# Altium footprint library OPA277.PcbLib: 2 footprints
Each footprint in its own frame and in the unit in brackets; x right, y up, seen from the top. Pads: shape width x height; smd on the part's side, far side on the other; paste and mask are expansions set on the pad; w line width, h text height; cw(c..) or ccw(c..) is an arc to the next point about the centre after c.
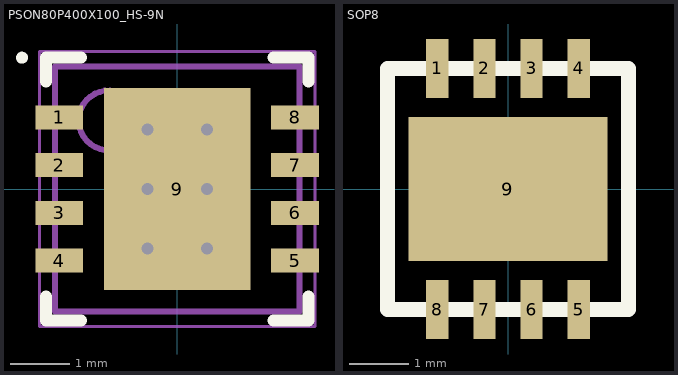
[diagram p0: the footprints below, top view; thin cyan lines are the x and y axes]

## PSON80P400X100_HS-9N [mm] "PSON, 8-Leads, Body 4,00x4,00mm, Pitch 0,80mm, Thermal Pad 3,38x2,45mm, IPC Medium Density"
height 1
pads (9):
  rect 0.8x0.4 smd: 1(-1.975,1.2) 2(-1.975,0.4) 3(-1.975,-0.4) 4(-1.975,-1.2) 5(1.975,-1.2) 6(1.975,-0.4) 7(1.975,0.4) 8(1.975,1.2)
  rect 2.45x3.38 smd paste-1.225: 9(0,0)
via 0.5,-1 diameter 0.5 hole 0.2
via -0.5,-1 diameter 0.5 hole 0.2
via 0.5,0 diameter 0.5 hole 0.2
via -0.5,0 diameter 0.5 hole 0.2
via 0.5,1 diameter 0.5 hole 0.2
via -0.5,1 diameter 0.5 hole 0.2
Top Overlay:
  circle w0.1: c-2.6,2.2 r0.05
  lines w0.2: -2.2,-1.8 -2.2,-2.2 -1.61,-2.2 ; -2.2,1.8 -2.2,2.2 -1.61,2.2 ; 1.61,-2.2 2.2,-2.2 2.2,-1.8 ; 1.61,2.2 2.2,2.2 2.2,1.8
Top Paste:
  rectangle: 0.15,-1.8 1.65,-0.8
  rectangle: 0.15,-0.5 1.65,0.5
  rectangle: 0.15,0.8 1.65,1.8
  rectangle: -1.65,-1.8 -0.15,-0.8
  rectangle: -1.65,-0.5 -0.15,0.5
  rectangle: -1.65,0.8 -0.15,1.8
Mechanical 13:
  circle w0.1: c-1.15,1.15 r0.5
  lines w0.1: -2.05,-2.05 2.05,-2.05 2.05,2.05 -2.05,2.05 -2.05,-2.05
Mechanical 15:
  lines w0.05: -2.305,-2.3 2.305,-2.3 2.305,2.3 -2.305,2.3 -2.305,-2.3
  lines w0.1: -0.5,0 0.5,0 ; 0,-0.5 0,0.5
3D body: height 1, standoff 0.08, extent -2.05,-2.05 2.05,2.05

## SOP8 [mm]
pads (9):
  rect 0.38x1 smd: 1(-1.2,2.05) 2(-0.4,2.05) 3(0.4,2.05) 4(1.2,2.05) 5(1.2,-2.05) 6(0.4,-2.05) 7(-0.4,-2.05) 8(-1.2,-2.05)
  rect 3.38x2.45 smd: 9(0,0)
Top Overlay:
  lines w0.254: -2.05,-2.05 2.05,-2.05 2.05,2.05 -2.05,2.05 -2.05,-2.05
3D body "DRM0008A.stp": height 1, standoff 0, extent -2,-2 2,2